# Altium schematic symbol library Power Controllers.SchLib: 31 symbols
Pins are listed as number, name and electrical type; pins without a type are passive.

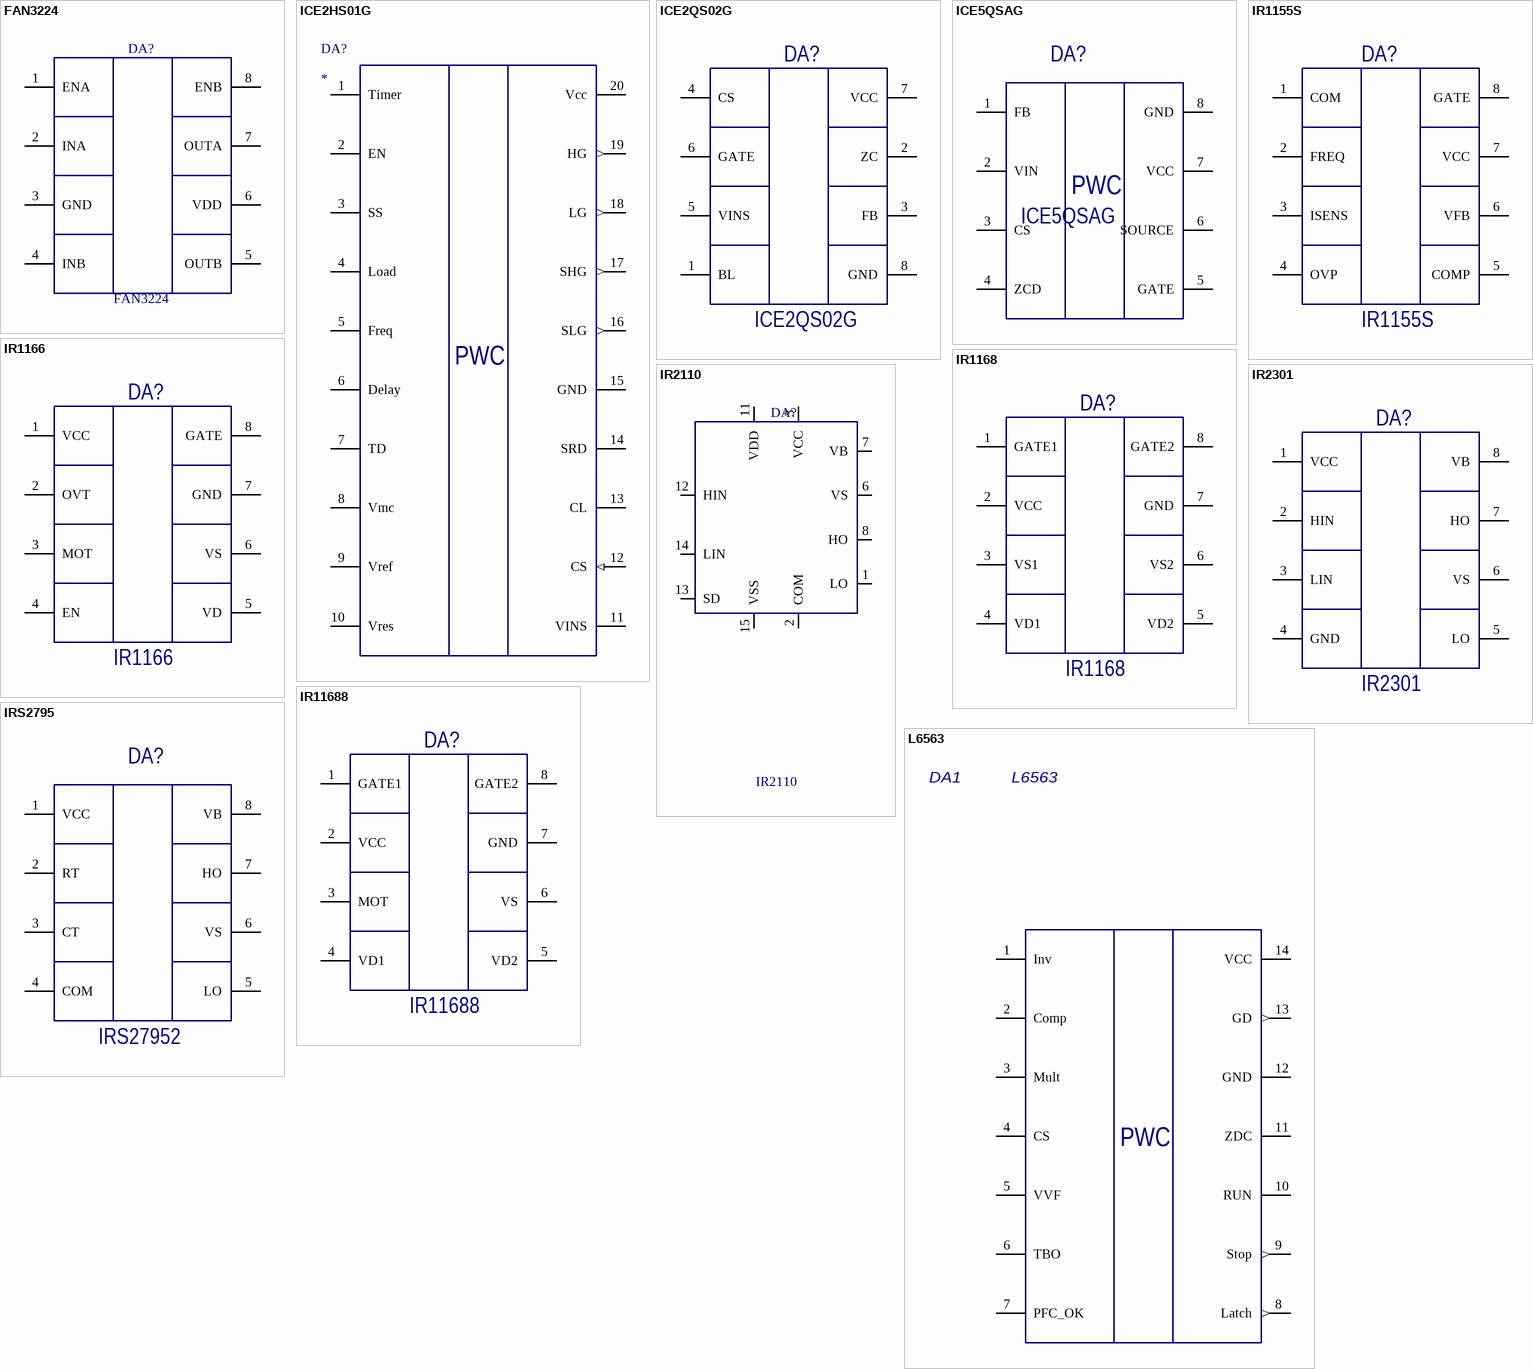
[diagram p0: symbols FAN3224 to L6563]

## FAN3224
designator DA?
Gate driver; ComponentDescription: FAN3224
footprint SOIC127P600X175-8N (SOIC, 8-Leads, Body 4,90x3,90mm, Pitch 1,27mm, IPC Medium Density)
pins: 1 ENA, 2 INA, 3 GND, 4 INB, 5 OUTB, 6 VDD, 7 OUTA, 8 ENB

## ICE2HS01G
designator DA?
High Performance Resonant Mode Controller for Half-bridge LLC Resonant Converter
pins: 1 Timer "Timer pin is used to set the blanking time and restart time for over load protection.", 2 EN "If the voltage level on this pin is pulled down below certain level, IC is latched", 3 SS "Soft Start pin connects an external capacitor CSS to GND and a resistor ROCP to FREQ pin.", 4 Load "Load condition detection. A voltage divider is connected to the collector of optocoupler, and this divided voltage", 5 Freq "This pin provides a precise 2V reference and a resistor RFMIN connected from this pin to GND, which defines a current that is used to determin the minimum operating frequency.", 6 Delay "For SR purpose, the delay time between primary side switch’s gate off signal and secondary side SR switch’s gate off signal can be adjusted by a resistor Rdelay connected to Delay pin.", 7 TD "Primary dead time setting)", 8 Vmc "Voltage levels for entering and leaving missing cycle mode", 9 Vref (power) "This pin is the output of refernce voltage, which is tight regulated at 5V.", 10 Vres "The voltage on this pin is used for determination the operation mode of the half-bridge LLC resonant converter, CCM or DCM", 11 VINS "The mains input voltage is fed to this pin via a resistive voltage divider.", 12 CS (in) "The current sense signal is fed to this pin. Inside the IC, three comparators are provided for 3 level OCP function.", 13 CL "current sense average level", 14 SRD "This pin is used to disable SR function, by pulling down SR pin to zero, in case of softstart, hold up time, OCP or any other conditions specified by customers", 15 GND (power) "IC common ground", 16 SLG (out) "This pin delivers gate drive signal for low side synchornous rectification switch", 17 SHG (out) "This pin delivers gate drive signal for high side synchronous rectification switch", 18 LG (out) "This pin delivers gate drive signal for primary low side switch", 19 HG (out) "This pin delivers gate drive signal for primary high side switch", 20 Vcc (power) "Supply voltage of the IC"
text: PWC

## ICE2QS02G
designator DA?
QR Flyback controller; ComponentDescription: ICE2QS02G
footprint SOIC127P600X175-8N (SOIC, 8-Leads, Body 4,90x3,90mm, Pitch 1,27mm, IPC Medium Density)
pins: 1 BL, 2 ZC, 3 FB, 4 CS, 5 VINS, 6 GATE, 7 VCC, 8 GND

## ICE5QSAG
designator DA?
QR Flyback controller; ComponentDescription: ICE5QSAG
footprint SOIC127P600X175-8N (SOIC, 8-Leads, Body 4,90x3,90mm, Pitch 1,27mm, IPC Medium Density)
pins: 1 FB, 2 VIN, 3 CS, 4 ZCD, 5 GATE, 6 SOURCE, 7 VCC, 8 GND
2 alternate drawings of the same symbol
text: PWC

## IR1155S
designator DA?
CCM PFC controller; ComponentDescription: IR1155S
footprint SOIC127P600X175-8N (SOIC, 8-Leads, Body 4,90x3,90mm, Pitch 1,27mm, IPC Medium Density)
pins: 1 COM, 2 FREQ, 3 ISENS, 4 OVP, 5 COMP, 6 VFB, 7 VCC, 8 GATE

## IR1166
designator DA?
Flyback, LLC synchronous rectifier; ComponentDescription: IR1166
footprint SOIC127P600X175-8N (SOIC, 8-Leads, Body 4,90x3,90mm, Pitch 1,27mm, IPC Medium Density)
pins: 1 VCC, 2 OVT, 3 MOT, 4 EN, 5 VD, 6 VS, 7 GND, 8 GATE

## IR1168
designator DA?
LLC synchronous rectifier; ComponentDescription: IR1168
footprint SOIC127P600X175-8N (SOIC, 8-Leads, Body 4,90x3,90mm, Pitch 1,27mm, IPC Medium Density)
pins: 1 GATE1, 2 VCC, 3 VS1, 4 VD1, 5 VD2, 6 VS2, 7 GND, 8 GATE2

## IR2110
designator DA?
Gate driver; ComponentDescription: IR2110
footprint SO16 (SOIC, 16-Leads, Body 10,30x7,50mm, Pitch 1,27mm, IPC Medium Density)
pins: 1 LO, 2 COM, 3 VCC, 6 VS, 7 VB, 8 HO, 11 VDD, 12 HIN, 13 SD, 14 LIN, 15 VSS
1 alternate drawing of the same symbol

## IR2301
designator DA?
Half bridge driver; ComponentDescription: IR2301
footprint SOIC127P600X175-8N (SOIC, 8-Leads, Body 4,90x3,90mm, Pitch 1,27mm, IPC Medium Density)
pins: 1 VCC, 2 HIN, 3 LIN, 4 GND, 5 LO, 6 VS, 7 HO, 8 VB

## IR11688
designator DA?
LLC synchronous rectifier; ComponentDescription: IR11688
footprint SOIC127P600X175-8N (SOIC, 8-Leads, Body 4,90x3,90mm, Pitch 1,27mm, IPC Medium Density)
pins: 1 GATE1, 2 VCC, 3 MOT, 4 VD1, 5 VD2, 6 VS, 7 GND, 8 GATE2

## IRS2795
designator DA?, comment IRS27952
LLC LED controoler; ComponentDescription: IRS27952
footprint SOIC127P600X175-8N (SOIC, 8-Leads, Body 4,90x3,90mm, Pitch 1,27mm, IPC Medium Density)
pins: 1 VCC, 2 RT, 3 CT, 4 COM, 5 LO, 6 VS, 7 HO, 8 VB

## L6563
designator DA1
Advanced transition-mode PFC controller; Manufacturer: STMicroelectronics; Solder Pad Count: 14; BOM Category: Микросхемы; BOM Description: L6563TR; Value: L6563; Part Number: L6563; Component Kind: Standard; Component Type: Standard; ComponentLink1Description: Manufacturer; ComponentLink1URL: http://www.st.com; ComponentLink2Description: Datasheet; ComponentLink2URL: https://www.st.com/resource/en/datasheet/l6563.pdf; DatasheetVersion: March 2007 Rev. 4; PackageDescription: 14-Pin Small Outline Integrated Circuit 1.27 mm Pitch; PackageVersion: SO14-150; Pin Count: 14; Footprint: IPC-7351 Low Density; Mounting Technology: SMD; Supplier 1: Digi-Key; Supplier Part Number 1: 497-17058-ND; Unit Price: 0,5925; LatestRevisionDate: 11-May-2019; LatestRevisionNote: Component Created.; Published: 11-May-2019; Publisher: Evgen
footprint SOIC127P600X175-14N (SOIC, 14-Leads, Body 8,65x3,90mm, Pitch 1,27mm, IPC Medium Density)
pins: 1 Inv "Inverting input of the error amplifier. The information on the output voltage of the PFC preregulator  is fed into the pin through a resistor divider.", 2 Comp "Output of the error amplifier.", 3 Mult "Main input to the multiplier. This pin is connected to the rectified mains voltage via a  resistor divider and provides the sinusoidal reference to the current loop. The voltage on  this pin is used also to derive the information on the RMS mains voltage.", 4 CS "Input to the PWM comparator. The current flowing in the MOSFET is sensed through a  resistor, the resulting voltage is applied to this pin and compared with an internal reference  to determine MOSFET’s turn-off.", 5 VVF "Second input to the multiplier for 1/V2 function. The voltage at this pin, a DC level equal  to the peak voltage at pin MULT (pin 3), compensates the control loop gain dependence on  the mains voltage.", 6 TBO "Tracking Boost function. This pin provides a buffered VFF voltage. A resistor connected  between this pin and GND defines a current that is sunk from pin INV (pin 1).", 7 PFC_OK "PFC pre-regulator output voltage monitoring/disable function. This pin senses the output  voltage of the PFC pre-regulator through a resistor divider and is used for protection  purposes. If the voltage at the pin exceeds 2.5V the IC is shut down, its consumption goes  almost to the start-up level and this condition is latched.", 8 Latch (out) "Output pin for fault signaling. During normal operation this pin features high impedance. If  either a voltage above 2.5V at PFC_OK (pin 7) or a voltage above 1.7V on CS (pin 4) of  L6563 is detected the pin is asserted high.", 9 Stop (out) "Output pin for fault signaling. During normal operation this pin features high impedance. If  the IC is disabled by a voltage below 0.5V on RUN (pin 10) the voltage at the pin is pulled  to ground.", 10 RUN "Remote ON/OFF control. A voltage below 0.52V shuts down (not latched) the IC and  brings its consumption to a considerably lower level. PWM_STOP is asserted low. The IC  restarts as the voltage at the pin goes above 0.6V.", 11 ZDC "Boost inductor’s demagnetization sensing input for transition-mode operation. A negativegoing  edge triggers MOSFET’s turn-on.", 12 GND (power) "Ground. Current return for both the signal part of the IC and the gate driver.", 13 GD (out) "Gate driver output. The totem pole output stage is able to drive power MOSFET’s and  IGBT’s with a peak current of 600 mA source and 800 mA sink.", 14 VCC "Supply Voltage of both the signal part of the IC and the gate driver."
1 alternate drawing of the same symbol
text: PWC

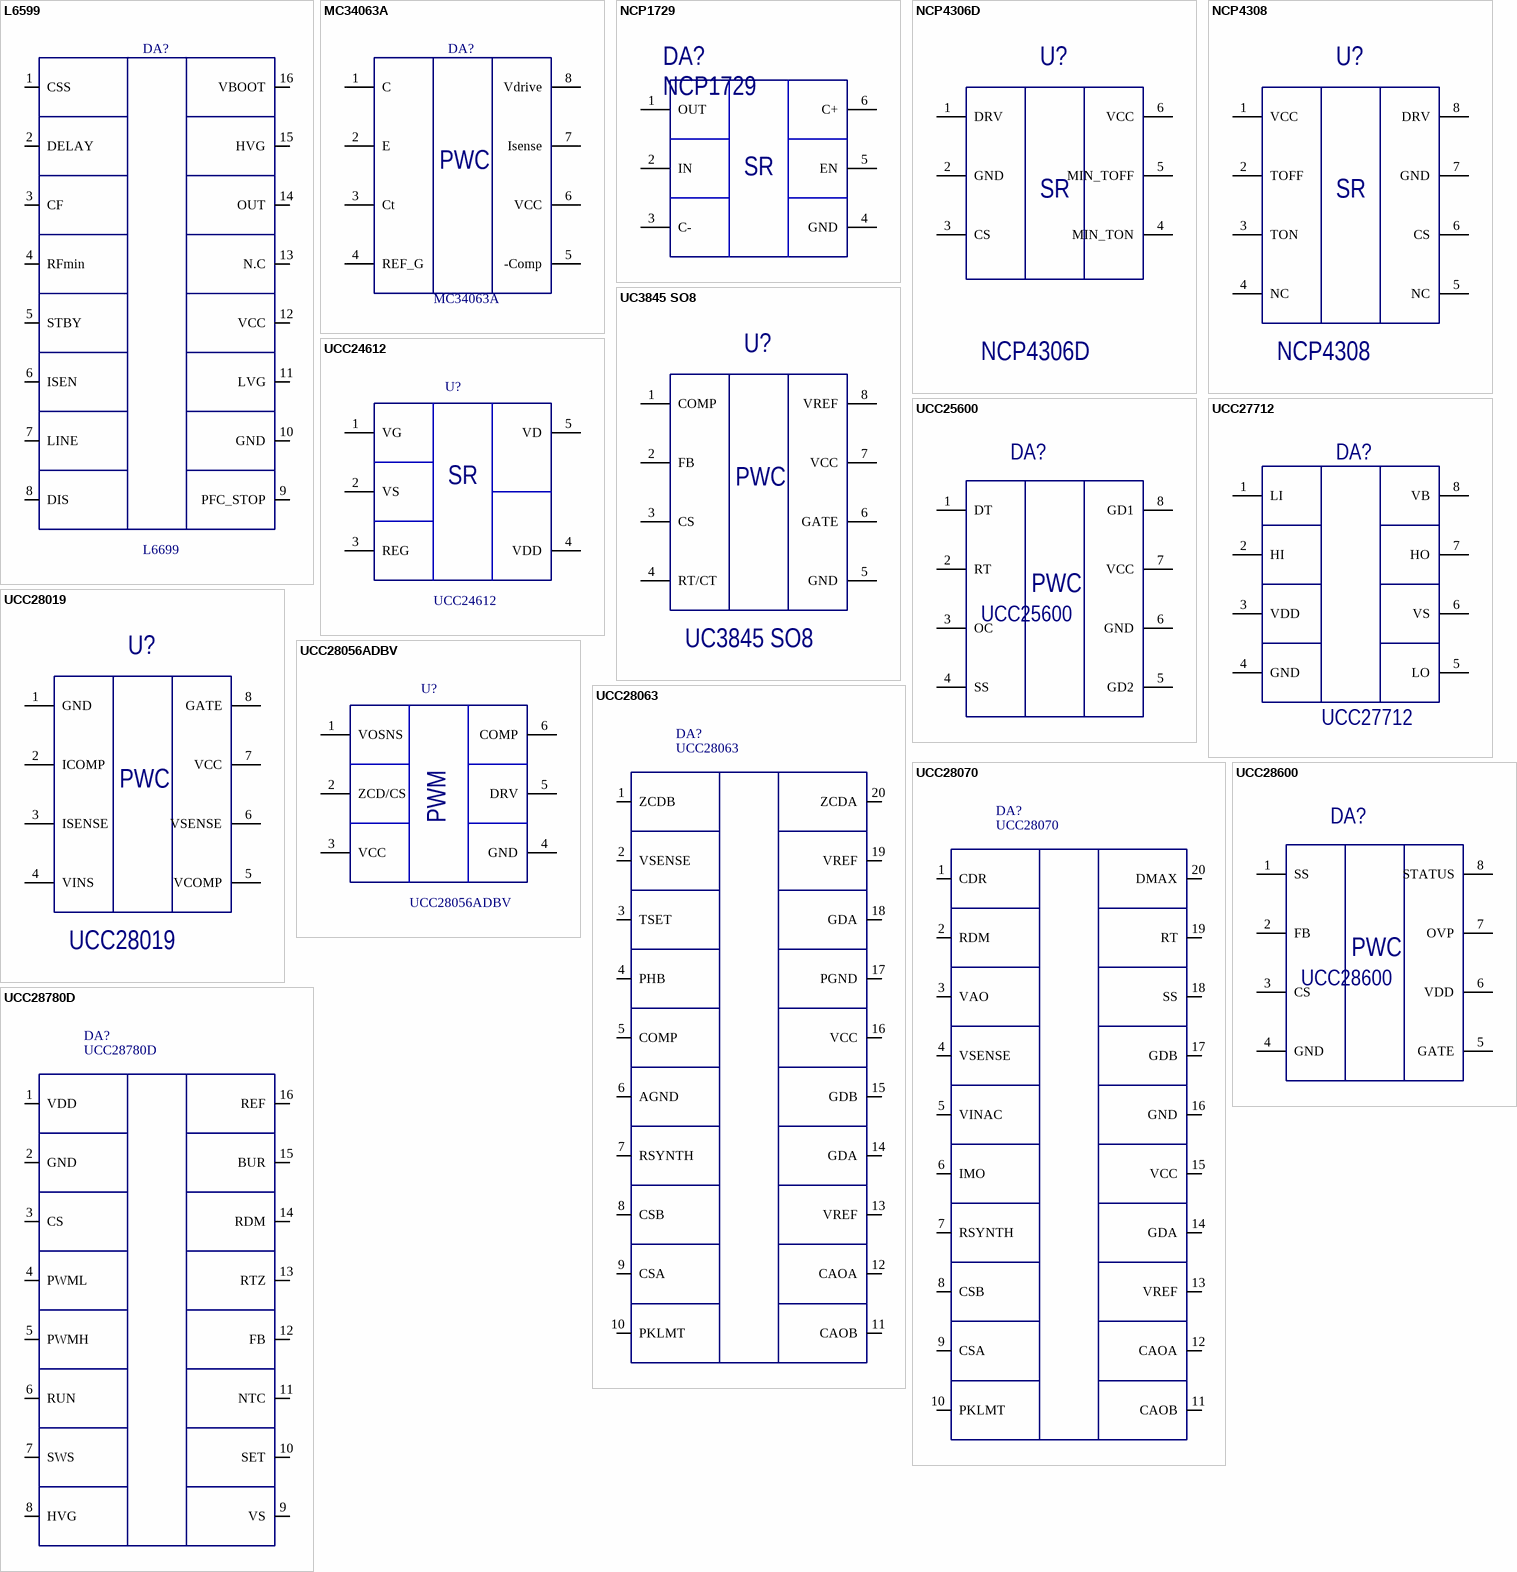
[diagram p1: symbols L6599 to UCC28780D]

## L6599
designator DA?, comment L6699
LLC resonant controller; ComponentDescription: L6699
footprint SOIC127P600X175-16N (SOIC, 16-Leads, Body 9,90x3,90mm, Pitch 1,27mm, IPC Medium Density)
pins: 1 CSS, 2 DELAY, 3 CF, 4 RFmin, 5 STBY, 6 ISEN, 7 LINE, 8 DIS, 9 PFC_STOP, 10 GND, 11 LVG, 12 VCC, 13 N.C, 14 OUT, 15 HVG, 16 VBOOT

## MC34063A
designator DA?
PWM controller; ComponentDescription: MC34063A
footprint SOIC127P600X175-8N (SOIC, 8-Leads, Body 4,90x3,90mm, Pitch 1,27mm, IPC Medium Density)
pins: 1 C, 2 E, 3 Ct, 4 REF_G, 5 -Comp, 6 VCC, 7 Isense, 8 Vdrive
text: PWC

## NCP1729
designator DA?
ComponentDescription: NCP1729
footprint SOT95P230X110-6N (SOT23, 5-Leads, Body 2,90x2,30mm, Pitch 0,95mm, IPC Medium Density)
pins: 1 OUT, 2 IN, 3 C-, 4 GND, 5 EN, 6 C+
text: SR

## NCP4306D
designator U?
Flyback, LLC synchronous rectifier; ComponentDescription: NCP4306D
footprint SOT95P230X110-6N (SOT23, 5-Leads, Body 2,90x2,30mm, Pitch 0,95mm, IPC Medium Density)
pins: 1 DRV, 2 GND, 3 CS, 4 MIN_TON, 5 MIN_TOFF, 6 VCC
1 alternate drawing of the same symbol
text: SR

## NCP4308
designator U?
Flyback, LLC synchronous rectifier; ComponentDescription: NCP4308
footprint SOIC127P600X175-8N (SOIC, 8-Leads, Body 4,90x3,90mm, Pitch 1,27mm, IPC Medium Density)
pins: 1 VCC, 2 TOFF, 3 TON, 4 NC, 5 NC, 6 CS, 7 GND, 8 DRV
1 alternate drawing of the same symbol
text: SR

## UC3845 SO8
designator U?
PWM controller; ComponentDescription: UC3845 SO8
footprint SOIC127P600X175-8N (SOIC, 8-Leads, Body 4,90x3,90mm, Pitch 1,27mm, IPC Medium Density)
pins: 1 COMP, 2 FB, 3 CS, 4 RT/CT, 5 GND, 6 GATE, 7 VCC, 8 VREF
1 alternate drawing of the same symbol
text: PWC

## UCC24612
designator U?
Advanced Synchronous Rectifier; ComponentDescription: UCC24612
footprint SOT95P230X110-5N (SOT23, 5-Leads, Body 2,90x2,30mm, Pitch 0,95mm, IPC Medium Density)
pins: 1 VG, 2 VS, 3 REG, 4 VDD, 5 VD
text: SR

## UCC25600
designator DA?
LLC resonant controller; ComponentDescription: UCC25600
footprint SOIC127P600X175-8N (SOIC, 8-Leads, Body 4,90x3,90mm, Pitch 1,27mm, IPC Medium Density)
pins: 1 DT, 2 RT, 3 OС, 4 SS, 5 GD2, 6 GND, 7 VCC, 8 GD1
text: PWC

## UCC27712
designator DA?
Half bridge driver; ComponentDescription: UCC27712
footprint SOIC127P600X175-8N (SOIC, 8-Leads, Body 4,90x3,90mm, Pitch 1,27mm, IPC Medium Density)
pins: 1 LI, 2 HI, 3 VDD, 4 GND, 5 LO, 6 VS, 7 HO, 8 VB

## UCC28019
designator U?
CCM PFC controller; ComponentDescription: UCC28019
footprint SOIC127P600X175-8N (SOIC, 8-Leads, Body 4,90x3,90mm, Pitch 1,27mm, IPC Medium Density)
pins: 1 GND, 2 ICOMP, 3 ISENSE, 4 VINS, 5 VCOMP, 6 VSENSE, 7 VCC, 8 GATE
1 alternate drawing of the same symbol
text: PWC

## UCC28056ADBV
designator U?
6-pin high performance CRM/DCM PFC controller; ComponentDescription: UCC28056ADBV
footprint SOT95P230X110-6N (SOT23, 5-Leads, Body 2,90x2,30mm, Pitch 0,95mm, IPC Medium Density)
pins: 1 VOSNS, 2 ZCD/CS, 3 VCC, 4 GND, 5 DRV, 6 COMP
text: PWM

## UCC28063
designator DA?
Interleaved 2 CCM PFC controller; ComponentDescription: UCC28063
footprint SOP65P600X265-20N (SOP, 20-Leads, Body 6,50x4,40mm, Pitch 0,65mm, IPC Medium Density)
pins: 1 ZCDB, 2 VSENSE, 3 TSET, 4 PHB, 5 COMP, 6 AGND, 7 RSYNTH, 8 CSB, 9 CSA, 10 PKLMT, 11 CAOB, 12 CAOA, 13 VREF, 14 GDA, 15 GDB, 16 VCC, 17 PGND, 18 GDA, 19 VREF, 20 ZCDA

## UCC28070
designator DA?
Interleaved 2 CCM PFC controller; ComponentDescription: UCC28070
footprint SOP65P600X265-20N (SOP, 20-Leads, Body 6,50x4,40mm, Pitch 0,65mm, IPC Medium Density)
pins: 1 CDR, 2 RDM, 3 VAO, 4 VSENSE, 5 VINAC, 6 IMO, 7 RSYNTH, 8 CSB, 9 CSA, 10 PKLMT, 11 CAOB, 12 CAOA, 13 VREF, 14 GDA, 15 VCC, 16 GND, 17 GDB, 18 SS, 19 RT, 20 DMAX

## UCC28600
designator DA?
QR Flyback controller; ComponentDescription: UCC28600
footprint SOIC127P600X175-8N (SOIC, 8-Leads, Body 4,90x3,90mm, Pitch 1,27mm, IPC Medium Density)
pins: 1 SS, 2 FB, 3 CS, 4 GND, 5 GATE, 6 VDD, 7 OVP, 8 STATUS
2 alternate drawings of the same symbol
text: PWC

## UCC28780D
designator DA?
Active clamp ZVS flyback; ComponentDescription: UCC28780D
footprint SOIC127P600X175-16N (SOIC, 16-Leads, Body 9,90x3,90mm, Pitch 1,27mm, IPC Medium Density)
pins: 1 VDD, 2 GND, 3 CS, 4 PWML, 5 PWMH, 6 RUN, 7 SWS, 8 HVG, 9 VS, 10 SET, 11 NTC, 12 FB, 13 RTZ, 14 RDM, 15 BUR, 16 REF

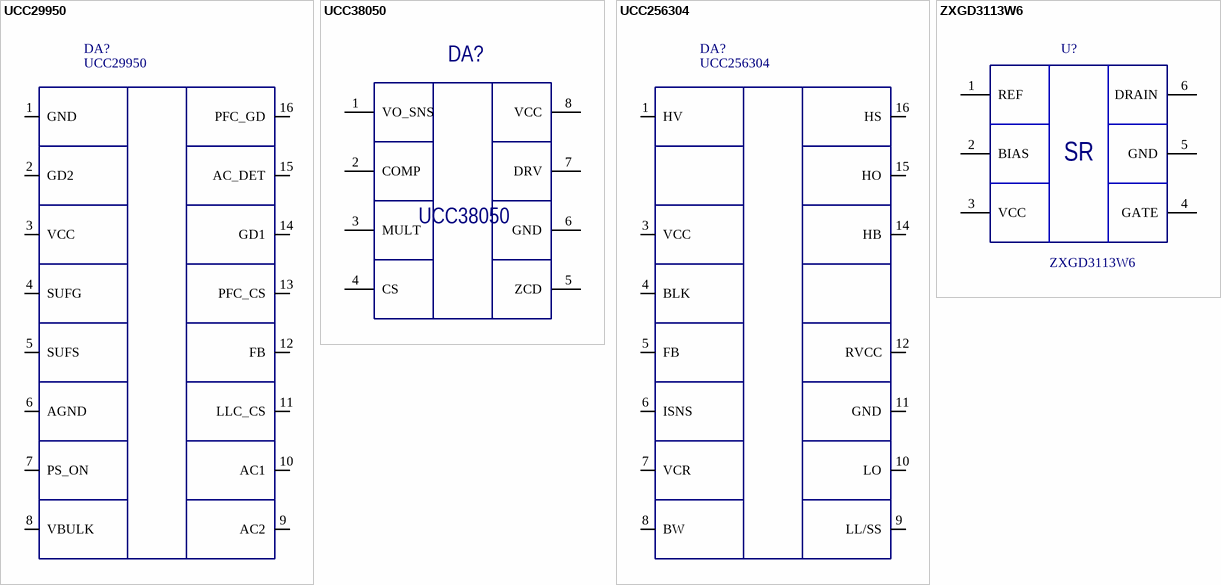
[diagram p2: symbols UCC29950 to ZXGD3113W6]

## UCC29950
designator DA?
LLC + PFC combo controller; ComponentDescription: UCC29950
footprint SOIC127P600X175-16N (SOIC, 16-Leads, Body 9,90x3,90mm, Pitch 1,27mm, IPC Medium Density)
pins: 1 GND, 2 GD2, 3 VCC, 4 SUFG, 5 SUFS, 6 AGND, 7 PS_ON, 8 VBULK, 9 AC2, 10 AC1, 11 LLC_CS, 12 FB, 13 PFC_CS, 14 GD1, 15 AC_DET, 16 PFC_GD

## UCC38050
designator DA?
DCM PFC controller; ComponentDescription: UCC38050
footprint SOIC127P600X175-8N (SOIC, 8-Leads, Body 4,90x3,90mm, Pitch 1,27mm, IPC Medium Density)
pins: 1 VO_SNS, 2 COMP, 3 MULT, 4 CS, 5 ZCD, 6 GND, 7 DRV, 8 VCC

## UCC256304
designator DA?
High performance LLC controller; ComponentDescription: UCC256304
footprint UCC256304 (SOIC, 16-Leads, UCC256304)
pins: 1 HV, 3 VCC, 4 BLK, 5 FB, 6 ISNS, 7 VCR, 8 BW, 9 LL/SS, 10 LO, 11 GND, 12 RVCC, 14 HB, 15 HO, 16 HS

## ZXGD3113W6
designator U?
Advanced Synchronous Rectifier; ComponentDescription: ZXGD3113W6
footprint SOT95P230X110-6N (SOT23, 5-Leads, Body 2,90x2,30mm, Pitch 0,95mm, IPC Medium Density)
pins: 1 REF, 2 BIAS, 3 VCC, 4 GATE, 5 GND, 6 DRAIN
text: SR